# Altium footprint library 1011-011-01101.PcbLib: 1 footprints
Each footprint in its own frame and in the unit in brackets; x right, y up, seen from the top. Pads: shape width x height; smd on the part's side, far side on the other; paste and mask are expansions set on the pad; w line width, h text height; cw(c..) or ccw(c..) is an arc to the next point about the centre after c.
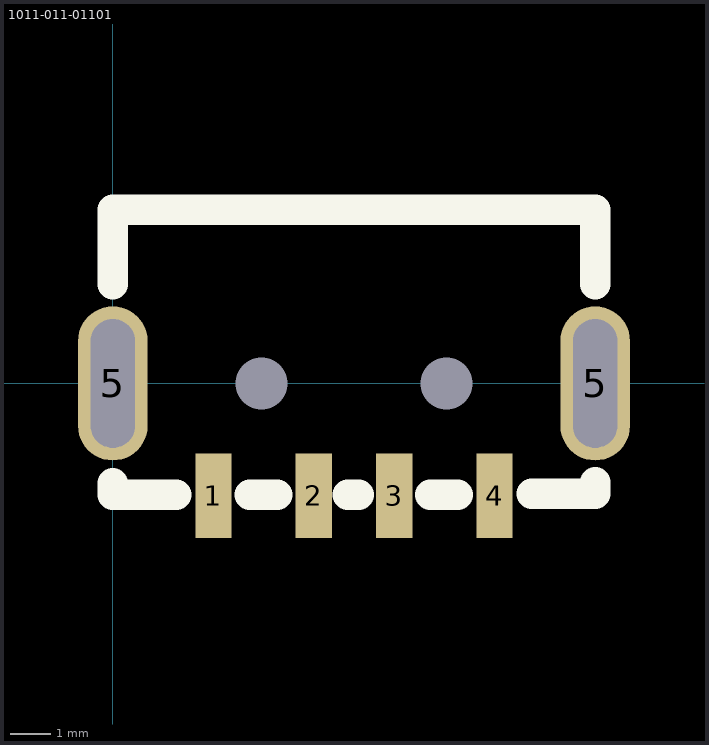
[diagram p0: the footprint, top view; thin cyan lines are the x and y axes]

## 1011-011-01101 [mm]
pads (8):
  rect 0.9x2.1 smd: 1(2.5,-2.8) 2(5,-2.8) 3(7,-2.8) 4(9.5,-2.8)
  oval 1.735x3.835 hole 1.1 slot 3.2 at 90 deg: 5(0,0) 5(12,0)
  round 0.254 hole 1.3 unplated: MH1(3.7,0) MH1(8.3,0)
Top Overlay:
  lines w0.762: 0,-2.489 0,-2.769 1.575,-2.769 ; 0,2.464 0,4.318 12,4.318 12,2.464 ; 3.404,-2.769 4.089,-2.769 ; 5.842,-2.769 6.121,-2.769 ; 7.899,-2.769 8.585,-2.769 ; 10.425,-2.743 12,-2.743 12,-2.464
  text "." at 2.286,-5.08 h1.91
3D body: height 3.18, standoff -2.62, extent -0.309,-2.616 12.297,17.684